# Altium footprint library FFC_8_1.25.PcbLib: 1 footprints
Each footprint in its own frame and in the unit in brackets; x right, y up, seen from the top. Pads: shape width x height; smd on the part's side, far side on the other; paste and mask are expansions set on the pad; w line width, h text height; cw(c..) or ccw(c..) is an arc to the next point about the centre after c.
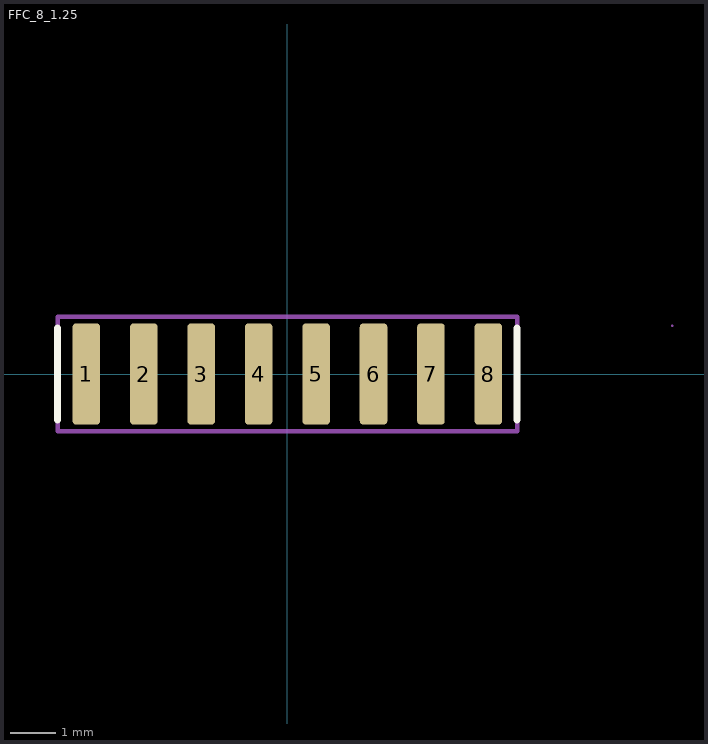
[diagram p0: the footprint, top view; thin cyan lines are the x and y axes]

## FFC_8_1.25 [mm]
height 2
pads (8):
  rrect25% 0.6x2.2 smd mask+0.025: 1(-4.375,0) 2(-3.125,0) 3(-1.875,0) 4(-0.625,0) 5(0.625,0) 6(1.875,0) 7(3.125,0) 8(4.375,0)
Top Overlay:
  lines w0.15: -5,-1 -5,1 ; 5,-1 5,1
Assembly:
  lines w0.1: -5,-1.25 -5,1.25 5,1.25 5,-1.25 -5,-1.25
Courtyard:
  lines w0.05: 8.375,1.05 8.375,1.05 ; 8.375,1.05 8.375,1.05 ; 8.375,1.05 8.375,1.05 ; 8.375,1.05 8.375,1.05 ; -5,-1.25 5,-1.25 5,1.25 -5,1.25 -5,-1.25